# Altium integrated library 二极管、三极管.IntLib: 4 symbols
Pins are listed as number, name and electrical type; pins without a type are passive.

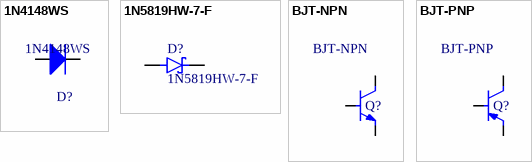
[diagram p0: symbols 1N4148WS to BJT-PNP]

## 1N4148WS
designator D?
footprint SOD-323
pins: A, C K

## 1N5819HW-7-F
designator D?
MF: Diodes Inc.; Value: *; SnapEDA_Link: https://www.snapeda.com/parts/1N5819HW-7-F/Diodes+Inc./view-part/?ref=snap; Purchase-URL: https://pricing.snapeda.com/search/part/1N5819HW-7-F/?ref=eda; Availability: In Stock; Price: None; Package: SOD-123 Fairchild Semiconductor; Check_prices: https://www.snapeda.com/parts/1N5819HW-7-F/Diodes+Inc./view-part/?ref=eda; MP: 1N5819HW-7-F
footprint SOD-123
pins: A, C K

## BJT-NPN
designator Q?
footprint SOT-23
pins: 1, 2, 3

## BJT-PNP
designator Q?
footprint SOT-23
pins: 1, 2, 3